# EAGLE library part DRV103 (library microLib)
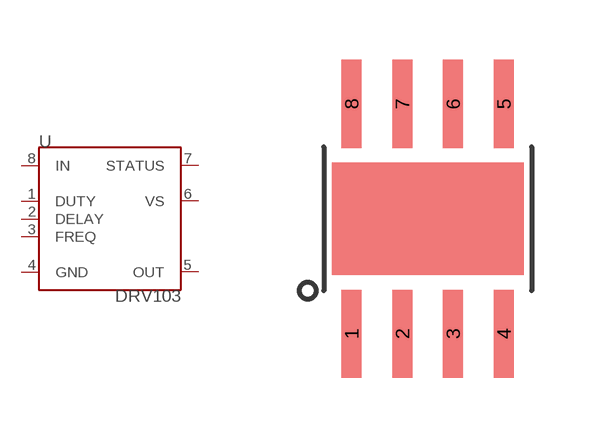
[diagram p16: symbol with the pads of PWP_8; footprint PWP_8]

Designator prefix -

## DRV103  [PWP_8]
1  DUTY
2  DELAY
3  FREQ
4  GND
5  OUT
6  VS
7  STATUS
8  IN

## Footprint PWP_8 (pad centres in mm)
smd 0.5 x 2.2: 1 -1.905,-2.875; 2 -0.635,-2.875; 3 0.635,-2.875; 4 1.905,-2.875; 5 1.905,2.875; 6 0.635,2.875; 7 -0.635,2.875; 8 -1.905,2.875